# Altium footprint library 0402_RES.PcbLib: 5 footprints
Each footprint in its own frame and in the unit in brackets; x right, y up, seen from the top. Pads: shape width x height; smd on the part's side, far side on the other; paste and mask are expansions set on the pad; w line width, h text height; cw(c..) or ccw(c..) is an arc to the next point about the centre after c.
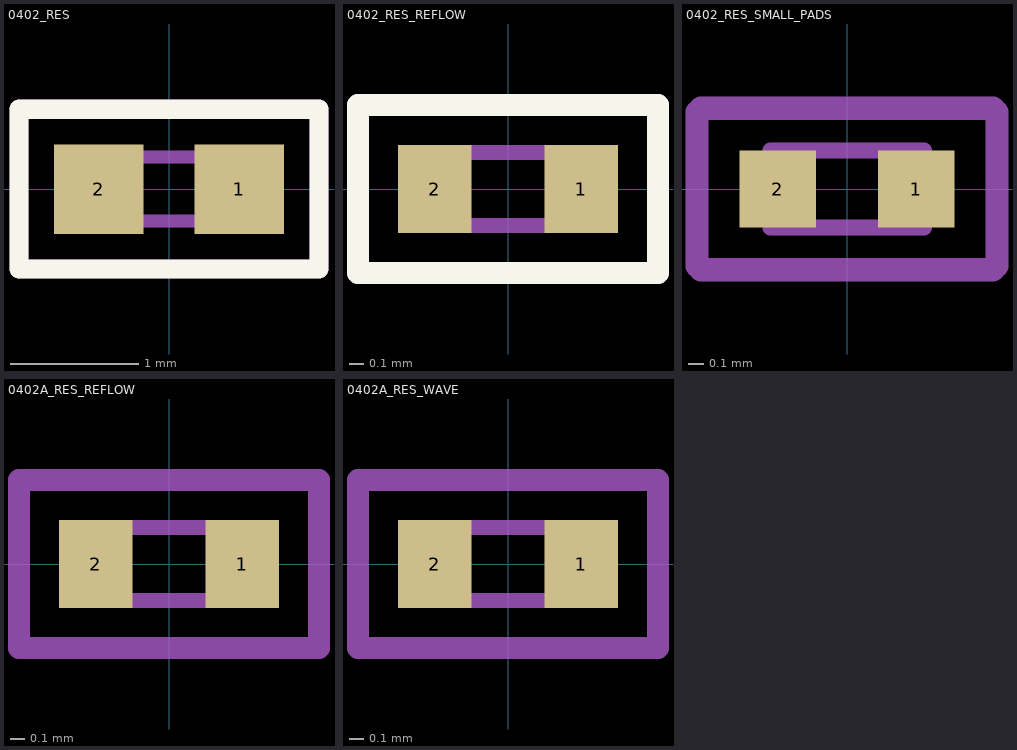
[diagram p0: the footprints below, top view; thin cyan lines are the x and y axes]

## 0402_RES [mm]
pads (2):
  rect 0.7x0.7 smd paste-0.03 mask+0.1: 1(0.55,0) 2(-0.55,0)
Top Overlay:
  lines w0.15: -1.175,-0.625 1.175,-0.625 ; -1.175,-0.6 -1.175,0.6 -1.15,0.625 ; -1.175,0.625 1.175,0.625 1.175,-0.625 ; 1.175,-0.625 1.175,-0.625
Top Component Outline:
  lines w0.102: -0.5,-0.25 0.5,-0.25 0.5,0.25 -0.5,0.25 -0.5,-0.25
Top Assembly:
  lines w0.15: -1.175,-0.625 1.175,-0.625 1.175,0.627 -1.173,0.627 -1.175,0.625 -1.175,-0.6
  text ".Designator" at -1.05,-1.425 h0.75
3D body "User Library-res0402-1.step": height 0.3, standoff 0, extent -0.5,-0.25 0.5,0.25

## 0402_RES_REFLOW [mm]
pads (2):
  rect 0.5x0.6 smd paste-0.03 mask+0.1: 1(0.5,0) 2(-0.5,0)
Top Overlay:
  lines w0.15: -1.025,-0.575 1.025,-0.575 1.025,0.575 -1.025,0.575 -1.025,-0.575
Top Component Outline:
  lines w0.102: -0.5,-0.25 -0.5,0.25 0.5,0.25 0.5,-0.25 -0.5,-0.25
Top Assembly:
  lines w0.15: -1.025,-0.575 -1.025,0.575 1.025,0.575 1.025,-0.575 -1.025,-0.575
  text ".Designator" at -0.9,-0.2 h0.75
3D body "User Library-res0402-1.step": height 0.3, standoff 0, extent -0.5,-0.25 0.5,0.25

## 0402_RES_SMALL_PADS [mm]
pads (2):
  rect 0.5x0.5 smd paste-0.03 mask+0.1: 1(0.45,0) 2(-0.45,0)
Top Component Outline:
  lines w0.102: -0.5,-0.25 0.5,-0.25 0.5,0.25 -0.5,0.25 -0.5,-0.25
Top Assembly:
  lines w0.15: -0.975,-0.5 -0.975,0.5 -0.95,0.525 0.95,0.525 0.975,0.5 0.975,-0.5 0.95,-0.525 -0.95,-0.525 -0.975,-0.5
  text ".Designator" at -0.8,-0.2 h0.75
3D body "User Library-res0402-1.step": height 0.3, standoff 0, extent -0.5,-0.25 0.5,0.25

## 0402A_RES_REFLOW [mm]
pads (2):
  rect 0.5x0.6 smd paste-0.03 mask+0.1: 1(0.5,0) 2(-0.5,0)
Top Component Outline:
  lines w0.102: -0.5,-0.25 0.5,-0.25 0.5,0.25 -0.5,0.25 -0.5,-0.25
Top Assembly:
  lines w0.15: -1.025,-0.575 1.025,-0.575 1.025,0.575 -1.025,0.575 -1.025,-0.575
  text ".Designator" at -0.9,-0.2 h0.75
3D body "User Library-res0402-1.step": height 0.3, standoff 0, extent -0.5,-0.25 0.5,0.25

## 0402A_RES_WAVE [mm]
pads (2):
  rect 0.5x0.6 smd paste-0.03 mask+0.1: 1(0.5,0) 2(-0.5,0)
Top Component Outline:
  lines w0.102: -0.5,-0.25 0.5,-0.25 0.5,0.25 -0.5,0.25 -0.5,-0.25
Top Assembly:
  lines w0.15: -1.025,-0.575 1.025,-0.575 1.025,0.575 -1.025,0.575 -1.025,-0.575
  text ".Designator" at -0.9,-0.2 h0.75
3D body "User Library-res0402-1.step": height 0.3, standoff 0, extent -0.5,-0.25 0.5,0.25